# Altium footprint library Motor Drivers.PcbLib: 8 footprints
Each footprint in its own frame and in the unit in brackets; x right, y up, seen from the top. Pads: shape width x height; smd on the part's side, far side on the other; paste and mask are expansions set on the pad; w line width, h text height; cw(c..) or ccw(c..) is an arc to the next point about the centre after c.
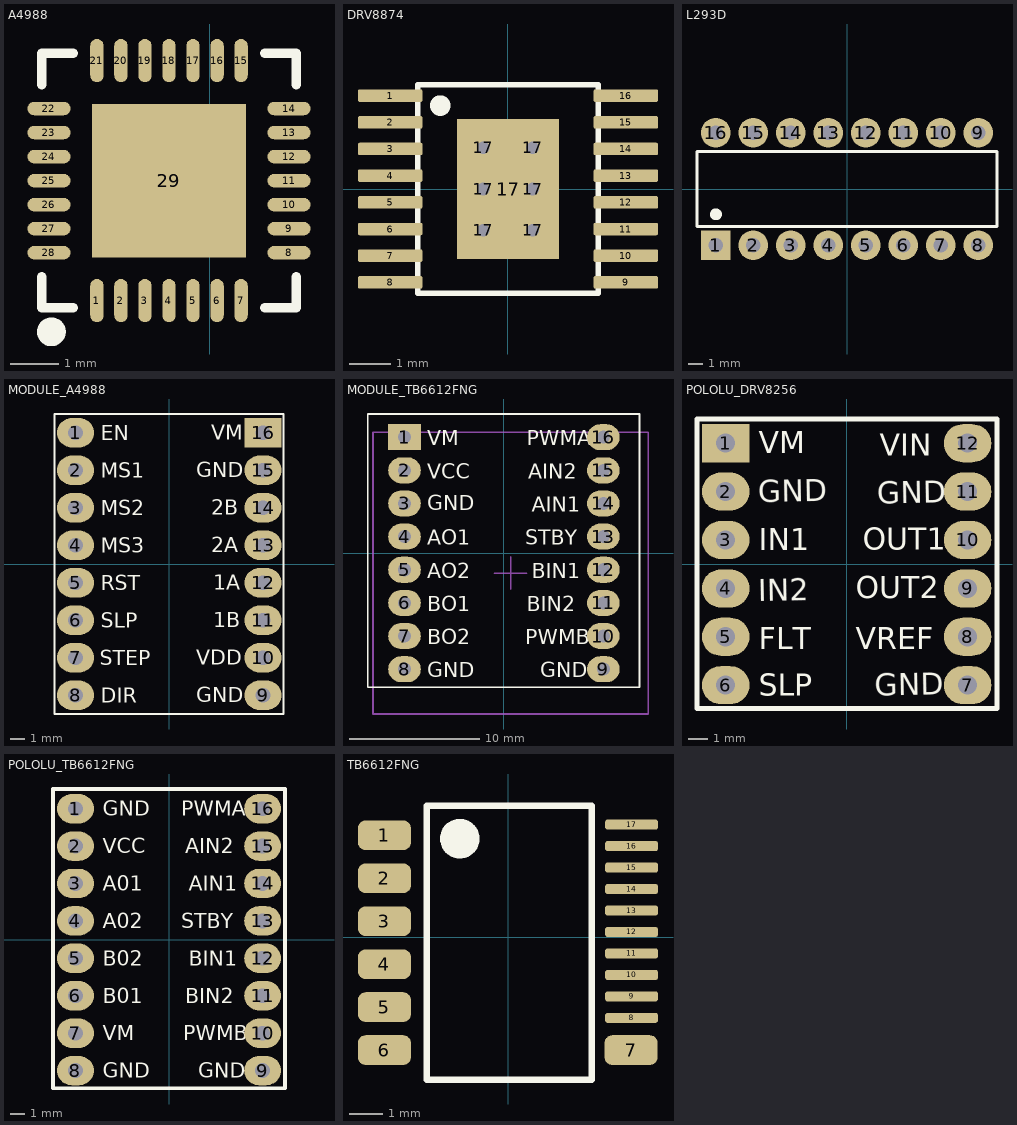
[diagram p0: the footprints below, top view; thin cyan lines are the x and y axes]

## A4988 [mm] "QFN-28"
pads (29):
  oval 0.28x0.9 smd paste-100 mask+0.051: 1(-2.354,-10.376) 2(-1.854,-10.376) 3(-1.353,-10.376) 4(-0.853,-10.376) 5(-0.352,-10.376) 6(0.148,-10.376) 7(0.648,-10.376) 15(0.648,-5.376) 16(0.148,-5.376) 17(-0.352,-5.376) 18(-0.853,-5.376) 19(-1.353,-5.376) 20(-1.854,-5.376) 21(-2.354,-5.376)
  oval 0.9x0.28 smd paste-100 mask+0.051: 8(1.647,-9.377) 9(1.647,-8.877) 10(1.647,-8.377) 11(1.647,-7.876) 12(1.647,-7.376) 13(1.647,-6.875) 14(1.647,-6.375) 22(-3.353,-6.375) 23(-3.353,-6.875) 24(-3.353,-7.376) 25(-3.353,-7.876) 26(-3.353,-8.377) 27(-3.353,-8.877) 28(-3.353,-9.377)
  rect 3.2x3.2 smd paste-100 mask+0.051: 29(-0.853,-7.876)
Top Overlay:
  lines w0.2: -3.503,-9.876 -3.503,-10.526 -2.853,-10.526 ; -3.503,-5.876 -3.503,-5.226 -2.853,-5.226 ; 1.147,-10.526 1.797,-10.526 1.797,-9.876 ; 1.147,-5.226 1.797,-5.226 1.797,-5.876
  lines w0.3: -3.304,-10.876 ccw(c-3.303,-11.026) -3.301,-10.876
Top Paste:
  drawing of 29 lines, arcs and shapes, not listed
3D body "A4988.step": height 0.95, standoff 0, extent -3.46,-10.474 1.74,-5.274

## DRV8874 [mm] "HTSSOP-16"
pads (23):
  rrect25% 1.57x0.305 smd: 1(-2.87,2.275) 2(-2.87,1.625) 3(-2.87,0.975) 4(-2.87,0.325) 5(-2.87,-0.325) 6(-2.87,-0.975) 7(-2.87,-1.625) 8(-2.87,-2.275) 9(2.87,-2.275) 10(2.87,-1.625) 11(2.87,-0.975) 12(2.87,-0.325) 13(2.87,0.325) 14(2.87,0.975) 15(2.87,1.625) 16(2.87,2.275)
  round 0.61 hole 0.305: 17(-0.6,-1) 17(-0.6,0) 17(-0.6,1) 17(0.6,-1) 17(0.6,0) 17(0.6,1)
  rect 2.48x3.4 smd paste-3: 17(0,0)
Top Overlay:
  circle w0.4: c-1.651,2.032 r0.05
  lines w0.127: -2.2,-2.54 -2.2,2.54 ; -2.159,-2.54 2.159,-2.54 ; -2.159,2.54 2.159,2.54 ; 2.2,-2.54 2.2,2.54
Top Paste:
  region: 0.8,-1.075 -0.8,-1.075 -0.8,1.075 0.8,1.075
3D body "step_temp.STEP": height 1.2, standoff 0, extent -3.2,-2.5 3.2,2.5

## L293D [mm] "DIP-16"
pads (16):
  rect 2x2 hole 1: 1(-8.89,-3.81)
  round 2 hole 1: 2(-6.35,-3.81) 3(-3.81,-3.81) 4(-1.27,-3.81) 5(1.27,-3.81) 6(3.81,-3.81) 7(6.35,-3.81) 8(8.89,-3.81) 9(8.89,3.81) 10(6.35,3.81) 11(3.81,3.81) 12(1.27,3.81) 13(-1.27,3.81) 14(-3.81,3.81) 15(-6.35,3.81) 16(-8.89,3.81)
Top Overlay:
  circle w0.6: c-8.877,-1.714 r0.1
  lines w0.229: -10.16,-2.54 10.16,-2.54 10.16,2.54 -10.16,2.54 -10.16,-2.54
3D body "L293D.STEP": height 8.55, standoff -2.78, extent -10.147,-5.016 10.173,5.143

## MODULE_A4988 [mm] "Module Stepper Motor Driver 8-35V 2A 20x15mm"
pads (16):
  oval 2.5x2 hole 1: 1(-6.35,8.89) 2(-6.35,6.35) 3(-6.35,3.81) 4(-6.35,1.27) 5(-6.35,-1.27) 6(-6.35,-3.81) 7(-6.35,-6.35) 8(-6.35,-8.89) 9(6.35,-8.89) 10(6.35,-6.35) 11(6.35,-3.81) 12(6.35,-1.27) 13(6.35,1.27) 14(6.35,3.81) 15(6.35,6.35)
  rect 2.5x2 hole 1: 16(6.35,8.89)
Top Overlay:
  lines w0.127: -7.766,-10.16 -7.766,10.16 7.728,10.16 7.728,-10.16 -7.766,-10.16
  text "SLP" at -4.642,-4.318 h1.02
  text "RST" at -4.642,-1.778 h1.02
  text "EN" at -4.642,8.382 h1.02
  text "VM" at 2.851,8.416 h1.02
  text "GND" at 1.835,5.876 h1.02
  text "2B" at 2.851,3.336 h1.02
  text "2A" at 2.851,0.796 h1.02
  text "1A" at 2.978,-1.744 h1.02
  text "1B" at 2.978,-4.284 h1.02
  text "VDD" at 1.835,-6.824 h1.02
  text "GND" at 1.835,-9.364 h1.02
  text "DIR" at -4.642,-9.398 h1.02
  text "STEP" at -4.699,-6.858 h1.02
  text "MS3" at -4.642,0.762 h1.02
  text "MS2" at -4.642,3.302 h1.02
  text "MS1" at -4.642,5.842 h1.02
3D body "MODULE_A4988.STEP": height 9.84, standoff -6.13, extent -7.639,-10.202 7.601,10.118

## MODULE_TB6612FNG [mm] "Module Dual Motor Driver 2.5-13.5V 3.2A Peak 21x18mm"
pads (16):
  rect 2.5x2 hole 1: 1(-7.62,8.89)
  oval 2.5x2 hole 1: 2(-7.62,6.35) 3(-7.62,3.81) 4(-7.62,1.27) 5(-7.62,-1.27) 6(-7.62,-3.81) 7(-7.62,-6.35) 8(-7.62,-8.89) 9(7.62,-8.89) 10(7.62,-6.35) 11(7.62,-3.81) 12(7.62,-1.27) 13(7.62,1.27) 14(7.62,3.81) 15(7.62,6.35) 16(7.62,8.89)
Top Overlay:
  lines w0.127: -10.439,-10.28 -10.439,10.668 10.389,10.668 10.389,-10.28 -10.439,-10.28
  text "VM" at -5.867,8.255 h1.14
  text "VCC" at -5.867,5.715 h1.14
  text "GND" at -5.867,-9.525 h1.14
  text "AO1" at -5.867,0.635 h1.14
  text "AO2" at -5.867,-1.905 h1.14
  text "BO2" at -5.867,-6.985 h1.14
  text "BO1" at -5.867,-4.445 h1.14
  text "GND" at -5.867,3.302 h1.14
  text "PWMA" at 1.753,8.255 h1.14
  text "AIN2" at 1.88,5.715 h1.14
  text "GND" at 2.769,-9.525 h1.14
  text "BIN1" at 2.134,-1.905 h1.14
  text "PWMB" at 1.626,-6.985 h1.14
  text "BIN2" at 1.753,-4.445 h1.14
  text "AIN1" at 2.134,3.175 h1.14
  text "STBY" at 1.626,0.635 h1.14
Mechanical 22:
  lines w0.127: -0.742,-1.524 1.758,-1.524
Mechanical 23:
  lines w0.127: 0.508,-2.774 0.508,-0.274
Mechanical 24:
  lines w0.127: -10.042,-12.324 -10.042,9.276
Mechanical 25:
  lines w0.127: 11.058,-12.324 11.058,9.276
Mechanical 26:
  lines w0.127: -10.042,9.276 11.058,9.276
Mechanical 27:
  lines w0.127: -10.042,-12.324 11.058,-12.324
3D body "TB6612FNG Module.STEP": height 6.12, standoff -5.99, extent -10.452,-10.28 10.452,10.7

## POLOLU_DRV8256 [mm] "Module Single Motor Driver w/ Current Sensor 4.5-48V 6.4A Peak 15.2x15.2mm"
pads (12):
  rect 2.5x2 hole 1: 1(-6.35,6.35)
  oval 2.5x2 hole 1: 2(-6.35,3.81) 3(-6.35,1.27) 4(-6.35,-1.27) 5(-6.35,-3.81) 6(-6.35,-6.35) 7(6.35,-6.35) 8(6.35,-3.81) 9(6.35,-1.27) 10(6.35,1.27) 11(6.35,3.81) 12(6.35,6.35)
Top Overlay:
  lines w0.254: -7.854,-7.58 7.894,-7.58 7.894,7.62 -7.854,7.62 -7.854,-7.58
  text "VM" at -4.603,5.831 h1.14
  text "GND" at -4.626,3.252 h1.14
  text "GND" at 1.47,-6.908 h1.14
  text "GND" at 1.617,3.168 h1.14
  text "IN1" at -4.623,0.731 h1.14
  text "IN2" at -4.626,-1.932 h1.14
  text "FLT" at -4.623,-4.476 h1.14
  text "SLP" at -4.623,-6.911 h1.14
  text "VREF" at 0.477,-4.456 h1.14
  text "VIN" at 1.747,5.704 h1.14
  text "OUT1" at 0.858,0.751 h1.14
  text "OUT2" at 0.477,-1.789 h1.14
3D body "POLOLU_DRV8256.step": height 2.92, standoff 0.1, extent -7.6,-7.58 7.64,7.66

## POLOLU_TB6612FNG [mm] "Module Dual Motor Driver 4.5-13.5V 3A Peak 20x15mm"
pads (16):
  oval 2.5x2 hole 1: 1(-6.35,8.89) 2(-6.35,6.35) 3(-6.35,3.81) 4(-6.35,1.27) 5(-6.35,-1.27) 6(-6.35,-3.81) 7(-6.35,-6.35) 8(-6.35,-8.89) 9(6.35,-8.89) 10(6.35,-6.35) 11(6.35,-3.81) 12(6.35,-1.27) 13(6.35,1.27) 14(6.35,3.81) 15(6.35,6.35) 16(6.35,8.89)
Top Overlay:
  lines w0.254: -7.877,-10.096 -7.877,10.223 7.871,10.223 7.871,-10.096 -7.877,-10.096
  text "GND" at -4.499,8.395 h1.02
  text "VCC" at -4.499,5.855 h1.02
  text "A01" at -4.499,3.315 h1.02
  text "A02" at -4.499,0.775 h1.02
  text "B02" at -4.499,-1.765 h1.02
  text "B01" at -4.499,-4.305 h1.02
  text "VM" at -4.499,-6.845 h1.02
  text "GND" at -4.499,-9.385 h1.02
  text "PWMA" at 0.835,8.395 h1.02
  text "AIN2" at 1.089,5.855 h1.02
  text "AIN1" at 1.343,3.315 h1.02
  text "STBY" at 0.835,0.775 h1.02
  text "BIN1" at 1.343,-1.765 h1.02
  text "BIN2" at 1.089,-4.305 h1.02
  text "PWMB" at 0.962,-6.845 h1.02
  text "GND" at 1.978,-9.385 h1.02
3D body "POLOLU_TB6612FNG.step": height 2.92, standoff 0.1, extent -7.623,-10.096 7.617,10.223

## TB6612FNG [mm] "SSOP24"
pads (17):
  rrect50% 1.6x0.9 smd: 1(-3.74,3.088) 2(-3.74,1.788) 3(-3.74,0.488) 4(-3.74,-0.812) 5(-3.74,-2.112) 6(-3.74,-3.412) 7(3.726,-3.412)
  rrect50% 1.6x0.305 smd: 8(3.74,-2.438) 9(3.74,-1.788) 10(3.74,-1.138) 11(3.74,-0.488) 12(3.74,0.162) 13(3.74,0.812) 14(3.74,1.462) 15(3.74,2.112) 16(3.74,2.762) 17(3.74,3.412)
Top Overlay:
  circle w0.6: c-1.46,2.987 r0.3
  lines w0.2: -2.46,-4.313 2.54,-4.313 2.54,3.987 -2.46,3.987 -2.46,-4.313
3D body "TB6612FNG,C,8,EL.stp": height 1.6, standoff 0, extent -3.8,-4.313 3.8,3.987